# Altium schematic symbol library LM5122ZPWPR.SchLib: 1 symbol
Pins are listed as number, name and electrical type; pins without a type are passive.

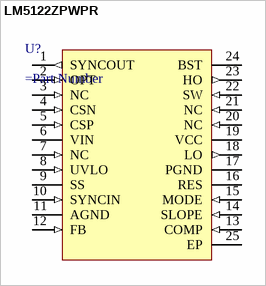
[diagram p0: symbol LM5122ZPWPR]

## LM5122ZPWPR
designator U?
=Description
pins: 1 SYNCOUT (out), 2 OPT (in), 3 NC (in), 4 CSN (in), 5 CSP (in), 6 VIN (power), 7 NC (in), 8 UVLO (in), 9 SS, 10 SYNCIN (in), 11 AGND (power), 12 FB (in), 13 COMP (in), 14 SLOPE (in), 15 MODE (in), 16 RES, 17 PGND (power), 18 LO (out), 19 VCC (power), 20 NC (in), 21 NC (in), 22 SW (in), 23 HO (out), 24 BST (power), 25 EP